# EAGLE library part KEYPAD-4X4 (library Tinkercad)
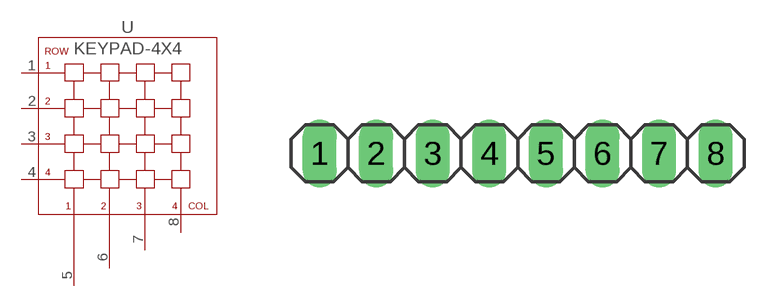
[diagram p39: symbol with the pads of 1X08; footprint 1X08]

Designator prefix -

## KEYPAD-4X4  [1X08]
1  ROW1  pas
2  ROW2  pas
3  ROW3  pas
4  ROW4  pas
5  COL1  pas
6  COL2  pas
7  COL3  pas
8  COL4  pas

## Footprint 1X08 (pad centres in mm)
PIN HEADER
drill 1.016 long: 1 -8.89,0; 2 -6.35,0; 3 -3.81,0; 4 -1.27,0; 5 1.27,0; 6 3.81,0; 7 6.35,0; 8 8.89,0